# Altium integrated library Audio - Amplifier.IntLib: 5 symbols
Pins are listed as number, name and electrical type; pins without a type are passive.

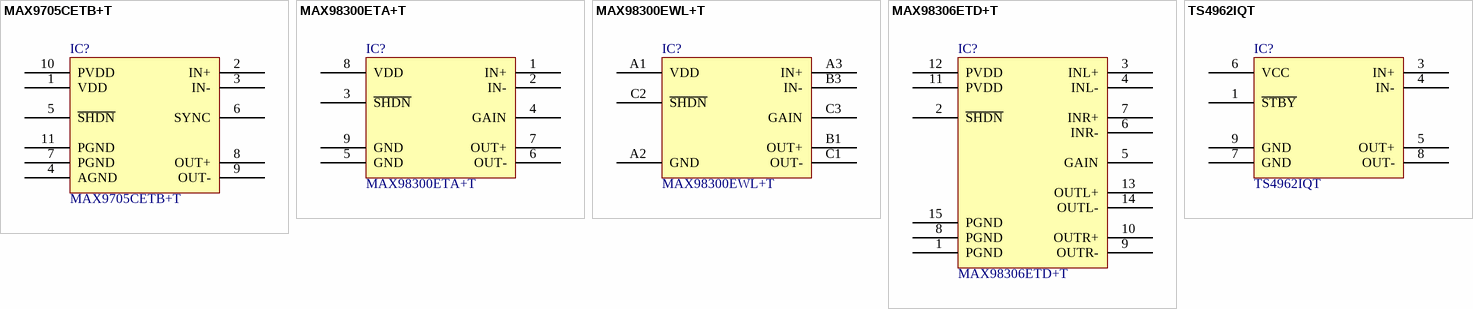
[diagram p0: symbols MAX9705CETB+T to TS4962IQT]

## MAX9705CETB+T
designator IC?
IC AMP AUDIO PWR 2.3W D 10TDFN; Manufacturer: Maxim Integrated; Output Type: 1-Channel (Mono); Max Output Power x Channels @ Load: 2.3W x 1 @ 4 Ohm; Voltage Supply: 2.5 V ~ 5.5 V; Part Number: MAX9705CETB+T; PartId: 9313; Supplier 1: Digi-Key; Supplier Part Number 1: MAX9705CETB+TTR-ND; ComponentLink1Description: Datasheet; ComponentLink1URL: http://datasheets.maximintegrated.com/en/ds/MAX9705.pdf; ComponentLink2Description: Digi-Key Listing; ComponentLink2URL: http://www.digikey.com/product-detail/en/MAX9705CETB%2BT/MAX9705CETB%2BTTR-ND/1499043; Price: 0.4896; Type: Class D; Device Package: 10-WFDFN Exposed Pad; Series: -; Operating Temperature: -40C ~ 85C (TA)
footprint MAXIM TDFN-10 3x3MM T1033-1
pins: 1 VDD, 2 IN+, 3 IN-, 4 AGND, 5 ~{SHDN}, 6 SYNC, 7 PGND, 8 OUT+, 9 OUT-, 10 PVDD, 11 PGND

## MAX98300ETA+T
designator IC?
IC AMP MONO CLASS D 2A 8TDFN; Manufacturer: Maxim Integrated; Output Type: 1-Channel (Mono); Max Output Power x Channels @ Load: 2.6W x 1 @ 4 Ohm; Voltage Supply: 2.6 V ~ 5.5 V; Part Number: MAX98300ETA+T; PartId: 9310; Supplier 1: Digi-Key; Supplier Part Number 1: MAX98300ETA+TTR-ND; ComponentLink1Description: Datasheet; ComponentLink1URL: http://datasheets.maximintegrated.com/en/ds/MAX98300.pdf; ComponentLink2Description: Digi-Key Listing; ComponentLink2URL: http://www.digikey.com/product-detail/en/MAX98300ETA%2BT/MAX98300ETA%2BTTR-ND/2356940; Price: 0.4896; Type: Class D; Device Package: 8-WFDFN Exposed Pad; Series: -; Operating Temperature: -40C ~ 85C (TA)
footprint MAXIM TDFN-8 2x2MM
pins: 1 IN+, 2 IN-, 3 ~{SHDN}, 4 GAIN, 5 GND, 6 OUT-, 7 OUT+, 8 VDD, 9 GND

## MAX98300EWL+T
designator IC?
IC AMP MONO CLASS D 2A 9WLP; Manufacturer: Maxim Integrated; Output Type: 1-Channel (Mono); Max Output Power x Channels @ Load: 2.6W x 1 @ 4 Ohm; Voltage Supply: 2.6 V ~ 5.5 V; Part Number: MAX98300EWL+T; PartId: 9311; Supplier 1: Digi-Key; Supplier Part Number 1: MAX98300EWL+T-ND; ComponentLink1Description: Datasheet; ComponentLink1URL: http://datasheets.maximintegrated.com/en/ds/MAX98300.pdf; ComponentLink2Description: Digi-Key Listing; ComponentLink2URL: http://www.digikey.com/product-detail/en/MAX98300EWL%2BT/MAX98300EWL%2BT-ND/2356941; Price: 0.4896; Type: Class D; Device Package: 9-WFBGA, WLBGA; Series: -; Operating Temperature: -40C ~ 85C (TA)
footprint MAXIM WLP-9 1.2x1.2MM
pins: A1 VDD, A2 GND, A3 IN+, B1 OUT+, B3 IN-, C1 OUT-, C2 ~{SHDN}, C3 GAIN

## MAX98306ETD+T
designator IC?
IC AMP AUDIO 3.7W STER D 14TDFN; Manufacturer: Maxim Integrated; Output Type: 2-Channel (Stereo); Max Output Power x Channels @ Load: 3.7W x 2 @ 3 Ohm; Voltage Supply: 2.6 V ~ 5.5 V; Part Number: MAX98306ETD+T; PartId: 9314; Supplier 1: Digi-Key; Supplier Part Number 1: MAX98306ETD+TTR-ND; ComponentLink1Description: Datasheet; ComponentLink1URL: http://datasheets.maximintegrated.com/en/ds/MAX98306.pdf; ComponentLink2Description: Digi-Key Listing; ComponentLink2URL: http://www.digikey.com/product-detail/en/MAX98306ETD%2BT/MAX98306ETD%2BTTR-ND/2708795; Price: 0.5508; Type: Class D; Device Package: 14-WFDFN Exposed Pad; Series: -; Operating Temperature: -40C ~ 85C (TA)
footprint MAXIM TDFN-14 3x3MM T1433+2
pins: 1 PGND, 2 ~{SHDN}, 3 INL+, 4 INL-, 5 GAIN, 6 INR-, 7 INR+, 8 PGND, 9 OUTR-, 10 OUTR+, 11 PVDD, 12 PVDD, 13 OUTL+, 14 OUTL-, 15 PGND

## TS4962IQT
designator IC?
IC AMP AUDIO PWR 2.8W MONO 8DFN; Manufacturer: STMicroelectronics; Output Type: 1-Channel (Mono); Max Output Power x Channels @ Load: 2.8W x 1 @ 4 Ohm; Voltage Supply: 2.4 V ~ 5.5 V; Part Number: TS4962IQT; PartId: 9312; Supplier 1: Digi-Key; Supplier Part Number 1: 497-5993-2-ND; ComponentLink1Description: Datasheet; ComponentLink1URL: http://www.st.com/web/en/resource/technical/document/datasheet/CD00045973.pdf; ComponentLink2Description: Digi-Key Listing; ComponentLink2URL: http://www.digikey.com/product-detail/en/TS4962IQT/497-5993-2-ND/1578397; Price: 0.4088; Type: Class D; Device Package: 8-UDFN Exposed Pad; Series: -; Operating Temperature: -40C ~ 85C (TA)
footprint ST DFN-8 3x3
pins: 1 ~{STBY}, 3 IN+, 4 IN-, 5 OUT+, 6 VCC, 7 GND, 8 OUT-, 9 GND